# EAGLE library part MAX9025EBT (library ecad)
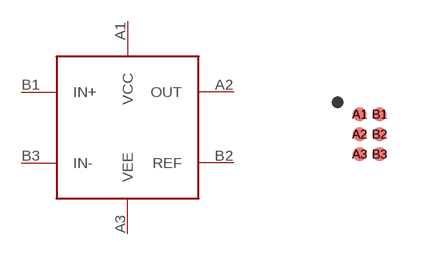
[diagram p0: symbol with the pads of 6_BUMP_UCSP; footprint 6_BUMP_UCSP]

Designator prefix U

## MAX9025EBT  [6_BUMP_UCSP]
A1  VCC  pas
A2  OUT  pas
A3  VEE  pas
B1  IN+  pas
B2  REF  pas
B3  IN-  pas

## Footprint 6_BUMP_UCSP (pad centres in mm)
smd 0.35 x 0.35: A1 -0.25,0.5; A2 -0.25,0; A3 -0.25,-0.5; B1 0.25,0.5; B2 0.25,0; B3 0.25,-0.5